# Altium schematic symbol library LM4121IM5-ADJ_NOPB.SchLib: 1 symbol
Pins are listed as number, name and electrical type; pins without a type are passive.

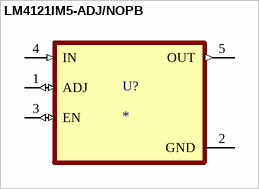
[diagram p0: symbol LM4121IM5-ADJ/NOPB]

## LM4121IM5-ADJ/NOPB
designator U?
Fixed & adjustable-voltage, 0.2% 50-ppm/Â°C drift precision series voltage reference with enable pin; MF: Texas Instruments; MP: LM4121IM5-ADJ/NOPB; SnapEDA_Link: https://www.snapeda.com/parts/LM4121IM5-ADJ/NOPB/Texas+Instruments/view-part/?ref=snap; Package: SOT-23-5 Texas Instruments; Value: *; Check_prices: https://www.snapeda.com/parts/LM4121IM5-ADJ/NOPB/Texas+Instruments/view-part/?ref=eda
footprint SOT95P280X145-5N
pins: 1 ADJ (io), 2 GND (power), 3 EN (io), 4 IN (in), 5 OUT (out)